# Altium footprint library TC33X-2.PcbLib: 1 footprints
Each footprint in its own frame and in the unit in brackets; x right, y up, seen from the top. Pads: shape width x height; smd on the part's side, far side on the other; paste and mask are expansions set on the pad; w line width, h text height; cw(c..) or ccw(c..) is an arc to the next point about the centre after c.
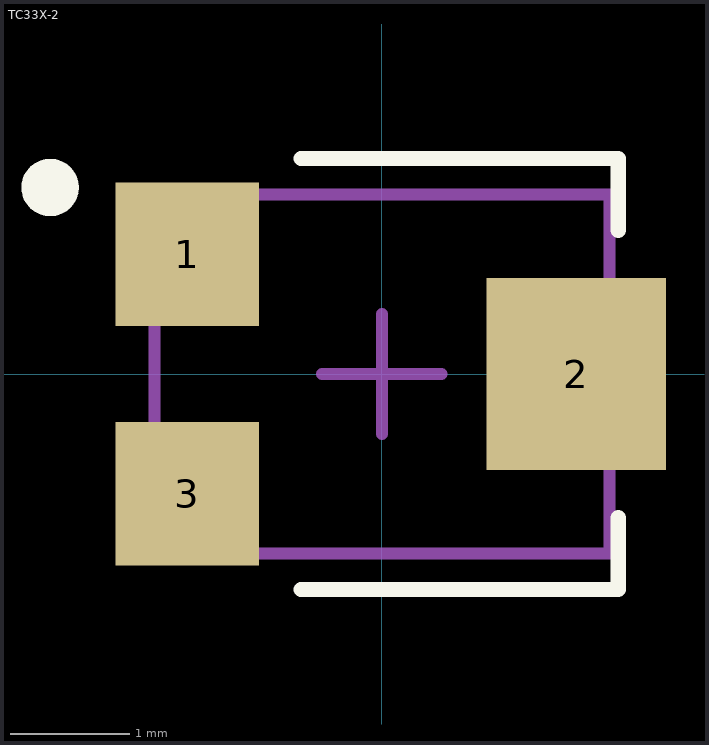
[diagram p0: the footprint, top view; thin cyan lines are the x and y axes]

## TC33X-2 [mm]
pads (3):
  rect 1.2x1.2 smd mask+0: 1(-1.625,1) 3(-1.625,-1)
  rect 1.5x1.6 smd mask+0: 2(1.625,0)
Top Overlay:
  circle w0.24: c-2.771,1.558 r0.12
  lines w0.127: -0.675,-1.8 1.975,-1.8 1.975,-1.2 ; -0.675,1.8 1.975,1.8 1.975,1.2
Mechanical 13:
  lines w0.1: -1.9,-1.5 1.9,-1.5 1.9,1.5 1.625,1.5 -1.9,1.5 -1.9,-1.5
Mechanical 15:
  lines w0.1: -0.5,0 0,0 ; 0,-0.5 0,0 ; 0,-0.25 0,0 ; 0,0.5 0,0 ; 0.5,0 0,0
3D body "step_temp.STEP": height 1.21, standoff 0.01, extent -1.9,-1.5 1.9,1.5